# Altium schematic symbol library uw-madison-parts.SchLib: 39 symbols
Pins are listed as number, name and electrical type; pins without a type are passive.

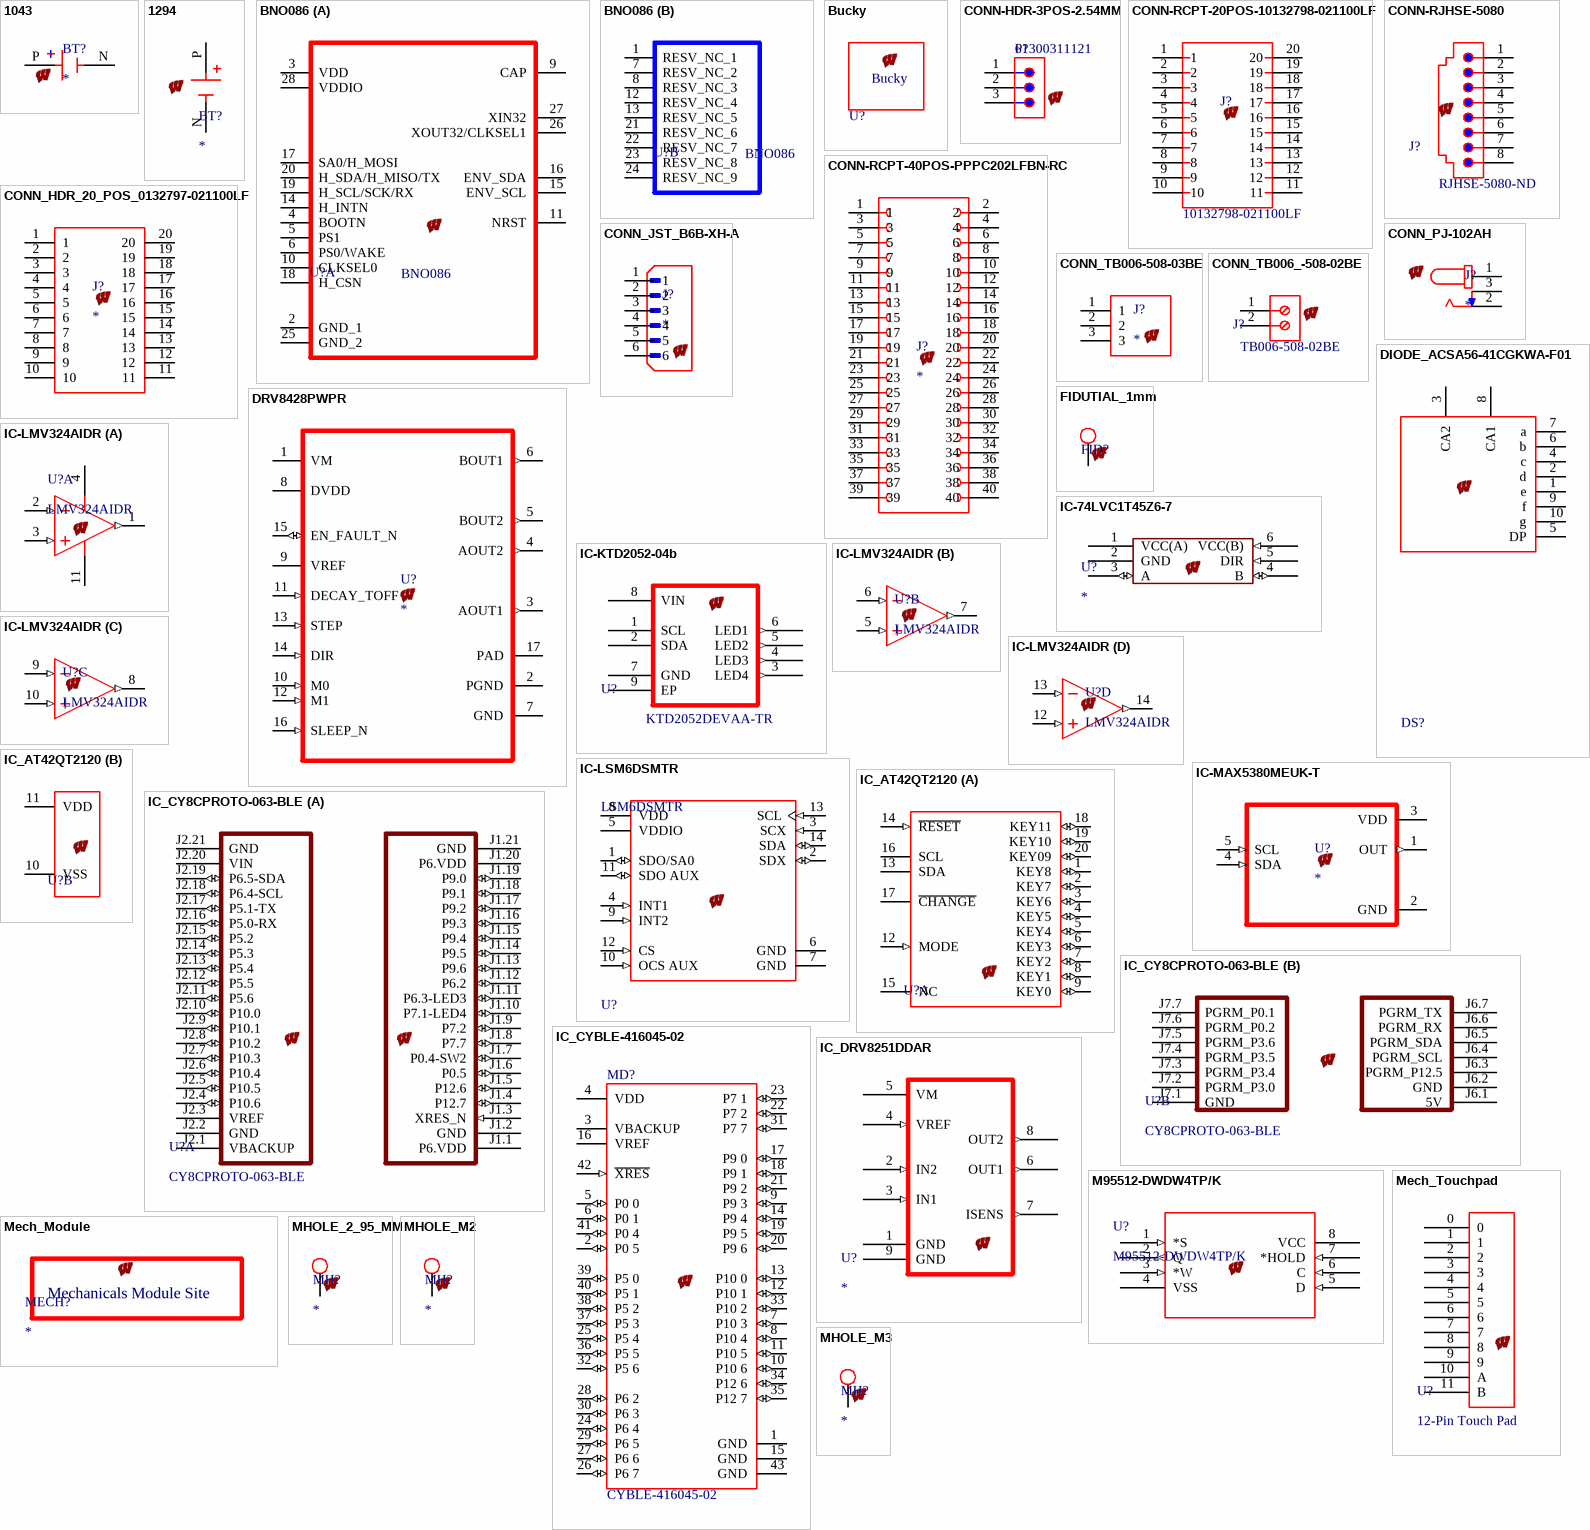
[diagram p0: symbols 1043 to MHOLE_M3]

## 1043
designator BT?
Manufacturer: Keystone Electronics; MP: 1043; Price: None; Availability: Unavailable; Value: *; Package: None; Supplier: Digikey; Supplier Part Number: 36-1043-ND; Manufacturer Part Number: 1043; RoHS: Yes; Category: Batteries and Accessories; Stock: 4625; Pricing: 1=3.38, 25=2.604, 100=2.328, 250=2.16176, 500=2.04398, 1000=1.9326, 2500=1.79464, 5000=1.69686 (USD); ComponentLink1URL: https://datasheet.ciiva.com/4/1043-4710.pdf?src-supplier=Digikey; ComponentLink1Description: https://datasheet.ciiva.com/4/1043-4710.pdf?src-supplier=Digikey; ComponentLink2URL: https://datasheet.ciiva.com/3353/1043-eng-tds-3353208.pdf?src-supplier=Distrelec; ComponentLink2Description: https://datasheet.ciiva.com/3353/1043-eng-tds-3353208.pdf?src-supplier=Distrelec; ComponentLink3URL: https://datasheet.ciiva.com/41803/1043-41803215.pdf?src-supplier=Digikey; ComponentLink3Description: https://datasheet.ciiva.com/41803/1043-41803215.pdf?src-supplier=Digikey; ComponentLink4URL: https://datasheet.ciiva.com/4642/1043-4642493.pdf?src-supplier=Mouser; ComponentLink4Description: https://datasheet.ciiva.com/4642/1043-4642493.pdf?src-supplier=Mouser
footprint BAT_1043
pins: N NEG, P POS

## 1294
designator BT?
Batteries/Accessories; MF: Keystone Electronics; MP: 1294; Connector Type: PCB; Option: General Purpose; DIN Conformance: No; SnapEDA_Link: https://www.snapeda.com/parts/1294/Keystone/view-part/?ref=snap; Package: NON STANDARD-6 Keystone; Value: *; Check_prices: https://www.snapeda.com/parts/1294/Keystone/view-part/?ref=eda; Supplier: Digikey; Supplier Part Number: 36-1294-ND; Manufacturer: Keystone Electronics; Manufacturer Part Number: 1294; RoHS: Yes; Category: Batteries and Accessories; Stock: 8657; Pricing: 1=2.89, 10=2.75, 500=2.13, 1000=1.65275, 2500=1.54001 (USD); Contact Finish - Mating: NOT SPECIFIED; IEC Conformance: No; MIL Conformance: No; Reach SVHC Compliant: Yes; RoHS Compliant: Yes; ComponentLink1URL: https://datasheet.ciiva.com:443/pdfs/VipMasterIC/IC/KEYC/KEYCS01036/KEYCS02682-1.pdf?src-supplier=IHS+Markit; ComponentLink1Description: https://datasheet.ciiva.com:443/pdfs/VipMasterIC/IC/KEYC/KEYCS01036/KEYCS02682-1.pdf?src-supplier=IHS+Markit; ComponentLink2URL: https://datasheet.ciiva.com/1391/1716650-1391274.pdf?src-supplier=Element14; ComponentLink2Description: https://datasheet.ciiva.com/1391/1716650-1391274.pdf?src-supplier=Element14; ComponentLink3URL: https://datasheet.ciiva.com/4/1294-4181.pdf?src-supplier=Digikey; ComponentLink3Description: https://datasheet.ciiva.com/4/1294-4181.pdf?src-supplier=Digikey; ComponentLink4URL: https://datasheet.ciiva.com/18403/70182887-18403178.pdf?src-supplier=Allied+Electronics; ComponentLink4Description: https://datasheet.ciiva.com/18403/70182887-18403178.pdf?src-supplier=Allied+Electronics
footprint BAT_1294
pins: N NEG, P POS

## BNO086
designator U?
Accelerometer, Gyroscope, Magnetometer, Temperature, 9 Axis Sensor IC, SPI Output; Manufacturer_Name: CEVA; Geometry.Height: 1.18mm; Mouser Part Number: 526-BNO086; Mouser Price/Stock: https://www.mouser.co.uk/ProductDetail/CEVA/BNO086?qs=ulEaXIWI0c%2FqTo1scjodAw%3D%3D; Manufacturer_Part_Number: BNO086; Datasheet Link: *
footprint BNO086
part A pins: 2 GND_1, 3 VDD, 4 BOOTN, 5 PS1, 6 PS0/WAKE, 9 CAP, 10 CLKSEL0, 11 NRST, 14 H_INTN, 15 ENV_SCL, 16 ENV_SDA, 17 SA0/H_MOSI, 18 H_CSN, 19 H_SCL/SCK/RX, 20 H_SDA/H_MISO/TX, 25 GND_2, 26 XOUT32/CLKSEL1, 27 XIN32, 28 VDDIO
part B pins: 1 RESV_NC_1, 7 RESV_NC_2, 8 RESV_NC_3, 12 RESV_NC_4, 13 RESV_NC_5, 21 RESV_NC_6, 22 RESV_NC_7, 23 RESV_NC_8, 24 RESV_NC_9

## Bucky
designator U?  (value not drawn)  (no BOM)
Bucky Badger Image; Manufacturer Part Number: UW Bucky
footprint Bucky

## CONN-HDR-3POS-2.54MM
designator P?, comment 61300311121
CONN HEADER VERT 3POS 2.54MM; NexarPartId: 32855521; Current Rating: 3A; Voltage Rating: 250V; Number of Positions: 3; Contact Resistance: 20mΩ; Connector Type: Male Pin; Gender: Male; REACH SVHC: Unknown; Packaging: Bulk; Contact Material: Copper; Pitch: 2.54mm; Min Operating Temperature: -40°C; Number of Rows: 1; Orientation: Vertical; RoHS: Compliant; Contact Plating: Gold; Max Operating Temperature: 105°C; Mount: Through Hole; Height: 8.94mm; Operating Supply Voltage: 250V; Number of Pins: 3; Contact Mating Length: 5.9944mm; Number of Contacts: 3; Color: Black; Lead Free: Lead Free; Lead Pitch: 2.54mm; Termination: Solder
footprint CONN-HDR-3POS (CONN HEADER VERT 3POS 2.54MM)
pins: 1, 2, 3

## CONN-RCPT-20POS-10132798-021100LF
designator J?  Manufacturer Part Number: 10132798-021100LF  (hidden comment: *)
Conn Fine Pitch Connector RCP 20 POS 0.5mm Solder ST SMD BergstakR T/R; Manufacturer: Amphenol ICC / FCI; Supplier 1: Digikey; RoHS: Yes; Category: Connectors; Stock 1: 7495; Pricing 1: 1=0.86, 10=0.73, 25=0.6844, 50=0.6516, 100=0.6205, 250=0.58156, 500=0.55376 (USD); ComponentLink1URL: http://portal.fciconnect.com/Comergent//fci/drawing/10132798.pdf?src-supplier=Digikey; ComponentLink1Description: http://portal.fciconnect.com/Comergent//fci/drawing/10132798.pdf?src-supplier=Digikey; ComponentLink2URL: https://cdn.amphenol-icc.com/media/wysiwyg/files/documentation/datasheet/boardwiretoboard/bwb_bergstak_05mm_mezzanine.pdf?src-supplier=Digikey; ComponentLink2Description: https://cdn.amphenol-icc.com/media/wysiwyg/files/documentation/datasheet/boardwiretoboard/bwb_bergstak_05mm_mezzanine.pdf?src-supplier=Digikey; ComponentLink3URL: https://datasheet.octopart.com/10132798-021100LF-Amphenol-Communications-Solutions-datasheet-100454238.pdf?src-supplier=Farnell; ComponentLink3Description: https://datasheet.octopart.com/10132798-021100LF-Amphenol-Communications-Solutions-datasheet-100454238.pdf?src-supplier=Farnell; ComponentLink4URL: https://datasheet.octopart.com/10132798-021100LF-Amphenol-Communications-Solutions-datasheet-154727277.pdf?src-supplier=Electro+Sonic; ComponentLink4Description: https://datasheet.octopart.com/10132798-021100LF-Amphenol-Communications-Solutions-datasheet-154727277.pdf?src-supplier=Electro+Sonic; Supplier Part Number 1: 609-5028-1-ND
footprint CONN-RCPT-20PIN-10132798-021100LF
pins: 1, 2, 3, 4, 5, 6, 7, 8, 9, 10, 11, 12, 13, 14, 15, 16, 17, 18, 19, 20

## CONN-RCPT-40POS-PPPC202LFBN-RC
designator J?
Board Connector, 40 Contact(s), 2 Row(s), Female, Straight, 0.1 inch Pitch, Solder Terminal, Locking; Manufacturer: Sullins; Manufacturer Series: PP; MP: PPPC202LFBN-RC; Number of Positions: 40; Connector Type: Header; Voltage Rating: 250V; Number of Contacts: 40NUMBER; Current Rating: 3A; Contact Pattern: RECTANGULAR; Contact Style: SQ PIN-SKT; Number Of Connectors: 1; Number Of PCB Rows: 2; Polarization Key: POLARIZED HOUSING; Body Breadth: 0.197inch; Body Depth: 0.334inch; Body Length: 2.02inch; PCB Contact Row Spacing: 2.54mm; Reference Standard: UL; Reliability: COMMERCIAL; Price: None; Package: None; Availability: Unavailable; Value: *; Supplier: Digikey; Supplier Part Number: S7123-ND; Manufacturer Part Number: PPPC202LFBN-RC; RoHS: Yes; Category: Connectors; Stock: 58226; Pricing: 1=2.4, 10=2.091, 80=1.869, 440=1.55745, 1000=1.33497, 5000=1.2714 (USD); Mounting Technology: Through Hole; Contact Material: Nickel,Gold; Contact Finish - Mating: GOLD; Contact Shape: Square; Insulation Color: Black; Insulation Material: Polyester; Housing Material: Plastic; Min Operating Temperature: -40°C; Max Operating Temperature: 105°C; Packaging: Tray; Termination: Solder; Number of Rows: 2; Contact Type: Female Socket; Series: -; Fastening Type: Pull; Length: 51.3mm; Width: 5mm; Height: 8.7mm; RoHS Compliant: Yes; Lead Free: Lead Free; Flammability Rating: UL94 V-0; ComponentLink1URL: https://media.digikey.com/pdf/Data%20Sheets/Sullins%20PDFs/Female_Headers.100_DS.pdf?src-supplier=Digikey; ComponentLink1Description: https://media.digikey.com/pdf/Data%20Sheets/Sullins%20PDFs/Female_Headers.100_DS.pdf?src-supplier=Digikey; ComponentLink2URL: https://datasheet.octopart.com/PPPC202LFBN-RC-Sullins-datasheet-41308905.pdf?src-supplier=Future+Electronics; ComponentLink2Description: https://datasheet.octopart.com/PPPC202LFBN-RC-Sullins-datasheet-41308905.pdf?src-supplier=Future+Electronics; Contact Gender: Female; Mounting Style: STRAIGHT; Number of Rows Loaded: 2; PCB Contact Pattern: RECTANGULAR; Rated Current (Signal): 3A; Mating Contact Pitch: 0.1inch; Mating Contact Row Spacing: 0.1inch; Mounting Option 1: LOCKING; Terminal Length: 0.125inch; Terminal Pitch: 2.54mm; Reach SVHC Compliant: Yes; ComponentLink3URL: https://datasheet.ciiva.com:443/pdfs/VipMasterIC/IC/SUCS/SUCSS00270/SUCSS00270-1.pdf?src-supplier=IHS+Markit; ComponentLink3Description: https://datasheet.ciiva.com:443/pdfs/VipMasterIC/IC/SUCS/SUCSS00270/SUCSS00270-1.pdf?src-supplier=IHS+Markit
footprint SULLINS_PPPC202LFBN-RC
pins: 1, 2, 3, 4, 5, 6, 7, 8, 9, 10, 11, 12, 13, 14, 15, 16, 17, 18, 19, 20, 21, 22, 23, 24, 25, 26, 27, 28, 29, 30, 31, 32, 33, 34, 35, 36, 37, 38, 39, 40

## CONN-RJHSE-5080
designator J?  Supplier Part Number 1: RJHSE-5080-ND
Telecom and Datacom Connector, 8 Contact(s), Female, Right Angle, Solder Terminal, Locking, Jack; Manufacturer: Amphenol; Contact Style: TELCOM, MODULAR; Number of Ports: 1; PCB Contact Pattern: STAGGERED; Number of Contacts: 8; Option: General Purpose; Empty Shell: No; Body Breadth: 0.52inch; Body Depth: 0.59inch; Body Length: 0.62inch; Plating Thickness: 50uin; Reference Standard: UL; Reliability: COMMERCIAL; ComponentLink1URL: http://www.molex.com/; ComponentLink1Description: Manufacturer URL; ComponentLink2URL: http://www.molex.com/pdm_docs/sd/955012881_sd.pdf; ComponentLink2Description: Datasheet; Supplier 1: Digikey; Manufacturer Part Number: RJHSE-5080; RoHS: Yes; Stock 1: 6683; Pricing 1: 1=0.98, 10=0.829, 25=0.7772, 50=0.7402, 100=0.7047, 250=0.66056, 500=0.629, 1000=0.59896, 2500=0.56146 (USD); Mounting Technology: Panel,Board; Contact Material: Bronze; Contact Finish - Mating: GOLD (50) OVER NICKEL (50); Contact Finish - Termination: Matte Tin (Sn); Insulation Color: Black; Insulation Material: Thermoplastic; Shell Material: Polyethylene; Connector Type: TELECOM AND DATACOM CONNECTOR; JESD-609 Code: e3; Body/Shell Style: JACK; Contact Gender: Female; Mounting Style: RIGHT ANGLE; Termination: Solder; Filter Feature: No; Mixed Contacts: No; Mounting Option 1: LOCKING; Terminal Length: 0.1inch; Terminal Pitch: 2.032mm; Flammability Rating: UL94 V-0; Reach SVHC Compliant: Yes; RoHS Compliant: Yes; DIN Conformance: No; IEC Conformance: No; MIL Conformance: No; ComponentLink3URL: https://datasheet.ciiva.com:443/pdfs/VipMasterIC/IC/AMPH/AMPH-S-A0001396201/AMPH-S-A0001290431-1.pdf?src-supplier=IHS+Markit; ComponentLink3Description: https://datasheet.ciiva.com:443/pdfs/VipMasterIC/IC/AMPH/AMPH-S-A0001396201/AMPH-S-A0001290431-1.pdf?src-supplier=IHS+Markit; ComponentLink4URL: https://datasheet.ciiva.com/7629/1682821-7629402.pdf?src-supplier=Element14; ComponentLink4Description: https://datasheet.ciiva.com/7629/1682821-7629402.pdf?src-supplier=Element14; ComponentLink5URL: https://datasheet.ciiva.com/1432/1693748-1432448.pdf?src-supplier=Element14; ComponentLink5Description: https://datasheet.ciiva.com/1432/1693748-1432448.pdf?src-supplier=Element14
footprint FP-RJHSE-5080-MFG
pins: 1, 2, 3, 4, 5, 6, 7, 8

## CONN_HDR_20_POS_0132797-021100LF
designator J?
BergStak® 0.5mm Mezzanine Connector, Board To Board Connectors, 20 position, 2.3mm height plug connector.; MP: 10132797-021100LF; MF: AMPHENOL ICC / FCI; SnapEDA_Link: https://www.snapeda.com/parts/10132797-021100LF/Amphenol/view-part/?ref=snap; Availability: In Stock; Package: None; Purchase-URL: https://pricing.snapeda.com/search/part/10132797-021100LF/?ref=eda; Check_prices: https://www.snapeda.com/parts/10132797-021100LF/Amphenol/view-part/?ref=eda; Value: *; Price: None; Supplier: Digikey; Supplier Part Number: 609-5022-1-ND; Manufacturer: Amphenol ICC / FCI; Manufacturer Part Number: 10132797-021100LF; RoHS: Yes; Category: Connectors; Stock: 2915; Pricing: 1=0.88, 10=0.743, 25=0.6968, 50=0.6634, 100=0.6316, 250=0.59204, 500=0.56374 (USD); Contact Finish - Mating: NOT SPECIFIED; Connector Type: BOARD CONNECTOR; Reach SVHC Compliant: Yes; RoHS Compliant: Yes; ComponentLink1URL: https://datasheet.octopart.com/10132797-021100LF-Amphenol-Communications-Solutions-datasheet-100454238.pdf?src-supplier=Element14; ComponentLink1Description: https://datasheet.octopart.com/10132797-021100LF-Amphenol-Communications-Solutions-datasheet-100454238.pdf?src-supplier=Element14; ComponentLink2URL: http://portal.fciconnect.com/Comergent//fci/drawing/10132797.pdf?src-supplier=Digikey; ComponentLink2Description: http://portal.fciconnect.com/Comergent//fci/drawing/10132797.pdf?src-supplier=Digikey; ComponentLink3URL: https://cdn.amphenol-icc.com/media/wysiwyg/files/documentation/datasheet/boardwiretoboard/bwb_bergstak_05mm_mezzanine.pdf?src-supplier=Digikey; ComponentLink3Description: https://cdn.amphenol-icc.com/media/wysiwyg/files/documentation/datasheet/boardwiretoboard/bwb_bergstak_05mm_mezzanine.pdf?src-supplier=Digikey
footprint CONN_PLUG_20pin-10132797-021100LF (CONN PLUG 20POS SMD GOLD)
pins: 1, 2, 3, 4, 5, 6, 7, 8, 9, 10, 11, 12, 13, 14, 15, 16, 17, 18, 19, 20

## CONN_JST_B6B-XH-A
designator J?
Connector Header, XH Series, 6 Position, 2.50mm, Through Hole, Press-Fit, Solder, Natural; Manufacturer: JST; Manufacturer Part Number: B6B-XH-A(LF)(SN); MF: {'manufacturer': u'JST Sales America Inc.'}; MP: B6B-XH-A; Package: None; Price: None; Value: *; Availability: Unavailable; Supplier: Mouser; Supplier Part Number: 306-B6BXHALFSN; RoHS: No; Category: Headers and Wire Housings; Stock: 209389; Pricing: 1=0.24, 10=0.197, 50=0.197, 100=0.161, 250=0.139, 1000=0.13, 2500=0.113, 10000=0.106, 20000=0.098 (USD); ComponentLink1URL: https://datasheet.ciiva.com/26894/getdatasheetpartid-641012-26894489.pdf?src-supplier=Verical; ComponentLink1Description: https://datasheet.ciiva.com/26894/getdatasheetpartid-641012-26894489.pdf?src-supplier=Verical; ComponentLink2URL: https://datasheet.ciiva.com/16397/b6b-xh-alfsn-16397116.pdf?src-supplier=Future+Electronics; ComponentLink2Description: https://datasheet.ciiva.com/16397/b6b-xh-alfsn-16397116.pdf?src-supplier=Future+Electronics
footprint JST_B6B-XH-A
pins: 1, 2, 3, 4, 5, 6

## CONN_PJ-102AH
designator J?
2.0 x 6.5 mm, 5.0 A, Horizontal, Through Hole, Tapered Pins, Dc Power Jack Connector; Manufacturer: CUI; MF: {'manufacturer': u'CUI Devices'}; MP: PJ-102AH; Number of Conductors: 2; Shielding: Unshielded; Package: None; Price: None; Value: *; Availability: Unavailable; Supplier: Digikey; Supplier Part Number: CP-102AH-ND; Manufacturer Part Number: PJ-102AH; RoHS: Yes; Category: Uncategorized; Stock: 76168; Pricing: 1=0.700000, 10=0.590000, 25=0.566000, 40=0.553750, 200=0.529750, 400=0.481600, 600=0.433430, 1000=0.385280, 2400=0.349160 (USD); Orientation: Horizontal; Packaging: Bulk; Termination: Through Hole; Connector Type: Jack; Diameter: 2.1mm; Lead Free: Lead Free; RoHS Compliant: Yes; ComponentLink1URL: http://www.mouser.com/ds/2/670/PJ-102AH-524179.pdf?src-supplier=Mouser; ComponentLink1Description: http://www.mouser.com/ds/2/670/PJ-102AH-524179.pdf?src-supplier=Mouser; ComponentLink2URL: https://www.cui.com/product/resource/digikeypdf/pj-102ah.pdf?src-supplier=Digikey; ComponentLink2Description: https://www.cui.com/product/resource/digikeypdf/pj-102ah.pdf?src-supplier=Digikey; ComponentLink3URL: http://www.cui.com/Product/Resource/FuturePDF/PJ-102AH.pdf?src-supplier=Future+Electronics; ComponentLink3Description: http://www.cui.com/Product/Resource/FuturePDF/PJ-102AH.pdf?src-supplier=Future+Electronics
footprint CUI_PJ-102AH
pins: 1, 2, 3

## CONN_TB006-508-03BE
designator J?
2~24 Poles, Screw Type, Horizontal, 5.08 Pitch, 26~14 (AWG), Terminal Block Connector; MF: CUI Devices; MP: TB006-508-03BE; Price: None; CUI_purchase_URL: https://www.cuidevices.com/product/interconnect/connectors/terminal-blocks/tb006-508-series?utm_source=snapeda.com&utm_medium=referral&utm_campaign=snapedaBOM; Purchase-URL: https://pricing.snapeda.com/search/part/TB006-508-03BE/?ref=eda; Value: *; Package: None; SnapEDA_Link: https://www.snapeda.com/parts/TB006-508-03BE/CUI+Devices/view-part/?ref=snap; Availability: In Stock; Check_prices: https://www.snapeda.com/parts/TB006-508-03BE/CUI+Devices/view-part/?ref=eda
footprint CUI_TB006-508-03BE
pins: 1, 2, 3

## CONN_TB006_-508-02BE
designator J?  Manufacturer Part Number: TB006-508-02BE  (hidden comment: *)
2~24 Poles, Screw Type, Horizontal, 5.08 Pitch, 26~14 (AWG), Terminal Block Connector; MF: CUI Devices; MP: TB006 -508-02BE; CUI_purchase_URL: https://www.cuidevices.com/product/interconnect/connectors/terminal-blocks/tb006-508-series?utm_source=snapeda.com&utm_medium=referral&utm_campaign=snapedaBOM; Value: *; Check_prices: https://www.snapeda.com/parts/TB006%20-508-02BE/CUI+Devices/view-part/?ref=eda; SnapEDA_Link: https://www.snapeda.com/parts/TB006%20-508-02BE/CUI+Devices/view-part/?ref=snap; Availability: In Stock; Package: None; Purchase-URL: https://pricing.snapeda.com/search/part/TB006 -508-02BE/?ref=eda; Price: None; Supplier: Digikey; Supplier Part Number: 102-6191-ND; Manufacturer: CUI Devices; RoHS: Yes; Category: Terminal Blocks; Stock: 47249; Pricing: 1=0.73, 10=0.402, 25=0.3, 50=0.2676, 100=0.2623, 250=0.23084, 500=0.20984, 1000=0.18886, 5000=0.14164 (USD)
footprint CUI_TB006 -508-02BE
pins: 1, 2

## DIODE_ACSA56-41CGKWA-F01
designator DS?, comment ACSA56-41CGKWA-F01  (value not drawn)
DISPLAY 7SEG 0.56" SGL GRN 10SMD; Manufacturer: Kingbright; Color: Green; Power Consumption: 75mW; Number of Characters: 1; Forward Current: 30mA; Forward Voltage: 2.1V; Wavelength: 570nm; Test Current: 20mA; Luminous Intensity: 25mcd; Display Type: Segment; Supplier: Digikey; Supplier Part Number: 754-1033-1-ND; Manufacturer Part Number: ACSA56-41CGKWA-F01; RoHS: Yes; Category: LEDs; Stock: 24017; Pricing: 1=3.02, 10=2.138, 100=1.7511 (USD); Case/Package: SMD/SMT; Min Operating Temperature: -40°C; Max Operating Temperature: 85°C; Package Quantity: 400; Max Power Dissipation: 75mW; Illumination Color: Green; Packaging: Cut Tape; Operating Supply Voltage: 2.1V; Series: -; RoHS Compliant: Yes; Lead Free: Lead Free; ComponentLink1URL: https://datasheet.ciiva.com/2103/acsa56-41cgkwa-f01-2103794.pdf?src-supplier=Digikey; ComponentLink1Description: https://datasheet.ciiva.com/2103/acsa56-41cgkwa-f01-2103794.pdf?src-supplier=Digikey; ComponentLink2URL: https://datasheet.ciiva.com/16287/acsa56-41cgkwa-f01-16287523.pdf?src-supplier=Future+Electronics; ComponentLink2Description: https://datasheet.ciiva.com/16287/acsa56-41cgkwa-f01-16287523.pdf?src-supplier=Future+Electronics; ComponentLink3URL: https://datasheet.ciiva.com/4421/acsa56-41cgkwa-f01-17964-4421697.pdf?src-supplier=Mouser; ComponentLink3Description: https://datasheet.ciiva.com/4421/acsa56-41cgkwa-f01-17964-4421697.pdf?src-supplier=Mouser; ComponentLink4URL: https://datasheet.ciiva.com/2103/acsa56-41cgkwa-f01-2103795.pdf?src-supplier=Digikey; ComponentLink4Description: https://datasheet.ciiva.com/2103/acsa56-41cgkwa-f01-2103795.pdf?src-supplier=Digikey; ComponentLink5URL: https://datasheet.ciiva.com/2103/acsa56-41cgkwa-f01-2103796.pdf?src-supplier=Digikey; ComponentLink5Description: https://datasheet.ciiva.com/2103/acsa56-41cgkwa-f01-2103796.pdf?src-supplier=Digikey
footprint ACSA56-41CGKWA-F01
pins: 1 e, 2 d, 3 CA2, 4 c, 5 DP, 6 b, 7 a, 8 CA1, 9 f, 10 g

## DRV8428PWPR
designator U?
No Description Available; Mfr_Name: Texas Instruments; TYPE: TYPE; RefDes: RefDes
footprint DRV8428PWPR
pins: 1 VM (power), 2 PGND (power), 3 AOUT1 (out), 4 AOUT2 (out), 5 BOUT2 (out), 6 BOUT1 (out), 7 GND (power), 8 DVDD (power), 9 VREF, 10 M0 (in), 11 DECAY_TOFF (in), 12 M1 (in), 13 STEP (in), 14 DIR (in), 15 EN_FAULT_N (io), 16 SLEEP_N (in), 17 PAD (power)

## FIDUTIAL_1mm
designator FID?  (value not drawn)  (no BOM)
Fidutial; Manufacturer Part Number: UW Fidutial
footprint Fiducials
pins: 1

## IC-74LVC1T45Z6-7
designator U?
Bus Transceiver, LVC/LCX/Z Series, 1-Func, 1-Bit, True Output, CMOS, PDSO6; Manufacturer: Diodes; Manufacturer Part Number: 74LVC1T45Z6-7; Package Body Material: Plastic; Control Type: COMMON CONTROL; Count Direction: Bidirectional; Load/Preset Input: Yes; Max I(ol): 24mA; Number of Bits: 1; Number of Ports: 2; Output Characteristics: 3-STATE; Power Supplies: 3.3V; Max Supply Voltage: 5.5V; Min Supply Voltage: 1.65V; Qualification Status: Not Qualified; Supplier: Digikey; Supplier Part Number: 74LVC1T45Z6-7DICT-ND; RoHS: Yes; Category: Logic ICs; Stock: 240655; Pricing: 1=0.19, 10=0.13, 25=0.114, 100=0.0972, 250=0.08908, 500=0.0842, 1000=0.08019 (USD); Case/Package: VSOF; Pins: 6; Package Shape: Rectangular; Terminal Finish: Tin; Min Operating Temperature: -40°C; Max Operating Temperature: 125°C; JESD-609 Code: e3; Output Polarity: True; JESD-30 Code: R-PDSO-F6; Logic Type: BUS TRANSCEIVER; Moisture Sensitivity Level: 1; Channels: 1; Package Style: SMALL OUTLINE, VERY THIN PROFILEMeter; Packaging: Tape and Reel; Nominal Supply Voltage: 3.3V; Surface Mount: Yes; Technology: CMOS; Terminal Form: Flat; Terminal Position: DUAL; Width: 1.2mm; Height - Seated (Max): 0.6mm; Terminal Pitch: 0.5mm; Temperature Grade: AUTOMOTIVE; Reach SVHC Compliant: Yes; RoHS Compliant: Yes; ComponentLink1URL: https://datasheet.ciiva.com:443/pdfs/VipMasterIC/IC/DIOD/DIOD-S-A0006644025/DIOD-S-A0006644025-1.pdf?src-supplier=IHS+Markit; ComponentLink1Description: https://datasheet.ciiva.com:443/pdfs/VipMasterIC/IC/DIOD/DIOD-S-A0006644025/DIOD-S-A0006644025-1.pdf?src-supplier=IHS+Markit; ComponentLink2URL: http://www.mouser.com/ds/2/115/74LVC1T45-318124.pdf?src-supplier=Mouser; ComponentLink2Description: http://www.mouser.com/ds/2/115/74LVC1T45-318124.pdf?src-supplier=Mouser; ComponentLink3URL: http://diodes.com/datasheets/74LVC1T45.pdf?src-supplier=Avnet; ComponentLink3Description: http://diodes.com/datasheets/74LVC1T45.pdf?src-supplier=Avnet; ComponentLink4URL: https://www.diodes.com/assets/Datasheets/74LVC1T45.pdf?src-supplier=Digikey; ComponentLink4Description: https://www.diodes.com/assets/Datasheets/74LVC1T45.pdf?src-supplier=Digikey; ComponentLink5URL: https://datasheet.octopart.com/74LVC1T45Z6-7-Diodes-Inc.-datasheet-160640065.pdf?src-supplier=Newark; ComponentLink5Description: https://datasheet.octopart.com/74LVC1T45Z6-7-Diodes-Inc.-datasheet-160640065.pdf?src-supplier=Newark
footprint SOT563
pins: 1 VCC(A) (power), 2 GND (power), 3 A (io), 4 B (io), 5 DIR (in), 6 VCC(B) (in)

## IC-KTD2052-04b
designator U?  Manufacturer Part Number: KTD2052DEVAA-TR  (hidden comment: *)
12-CHANNEL RGB LED DRIVER; Manufacturer: Kinetic Technologies; Supplier: Digi-Key; RoHS: No; Category: Uncategorized; Stock 1: 3000; Pricing 1: 1=1.55, 10=1.382, 25=1.312, 100=1.0779, 250=1.00756, 500=0.89042, 1000=0.70296 (USD); Supplier Part Number: 2763-KTD2052DEVAA-TRCT-ND
footprint KTD2052-04b
pins: 1 SCL, 2 SDA, 3 LED4 (out), 4 LED3 (out), 5 LED2 (out), 6 LED1 (out), 7 GND (power), 8 VIN (power), 9 EP (power)

## IC-LMV324AIDR
designator U?, comment LMV324AIDR
IC OPAMP GP 4 CIRCUIT 14SOIC; Nominal Supply Current: 1mA; Gain Bandwidth Product: 10MHz; Input Bias Current: 1pA; Max Supply Voltage: 5.5V; Min Input Voltage: 2.5V; Voltage Gain: 110dB; Number of Circuits: 1; Slew Rate: 7V/µs; Input Offset Voltage (Vos): 250uV; Power Supply Rejection Ratio (PSRR): 74dB; Input Offset Voltage-Max: 500uV; Output Current per Channel: 30mA; Output Current: 22mA; Common Mode Rejection Ratio: 70dB; Max Frequency: 10kHz; Amplifier Type: GENERAL PURPOSE; Contact Plating: Tin; Number of Pins: 5; Operating Supply Current: 1mA; RoHS Compliant: Yes; Mount: Surface Mount; Number of Amplifiers: 1; Case/Package: SOT-23; Min Supply Voltage: 2.5V; Radiation Hardening: No; Height: 0.051inch; Max Input Voltage: 5.5V; Min Operating Temperature: -40°C; Max Operating Temperature: 125°C; Number of Channels: 1; Package Quantity: 3000; Unity Gain Bandwidth Product: 10MHz; Length: 0.122inch; Width: 0.071inch; Number of Elements: 1; Bandwidth: 10MHz; Lead Free: Lead Free; Packaging: Tape and Reel; Technology: CMOS; Supply Current: 1mA; REACH SVHC: No SVHC
footprint SOIC127P600X175-14N
part A pins: 1 OUTA (out), 2 -INA (in), 3 INA+ (in), 4 V+ (power), 11 V- (power)
part B pins: 5 INB+ (in), 6 -INB (in), 7 OUTB (out)
part C pins: 8 OUTC (out), 9 -INC (in), 10 INC+ (in)
part D pins: 12 IND+ (in), 13 -IND (in), 14 OUTD (out)

## IC-LSM6DSMTR
designator U?, comment LSM6DSMTR
IMU ACCEL/GYRO I2C/SPI 14LGA; Manufacturer: STMicroelectronics; Operating Supply Current: 0.29-0.65mA; Gyro Range: 125/250/500/1000/2000°/s; Sensor Output: I2C,SPI; Accel Range: 2/4/8/16g; Min Supply Voltage: 1.62V; Resolution: 16bits; Sensor Type: Temperature,Accelerometer,Gyroscope; Max Supply Voltage: 3.6V; Manufacturer Part Number: LSM6DSMTR; Octopart: https://octopart.com/lsm6dsmtr-stmicroelectronics-66358194; Height: 0.86mm; Category: IC; Lead Free: Yes; Temperature: -40°C to +85°C; Temperature Range Low: -40°C; ComponentLink2Description: Datasheet; ComponentLink2URL: https://www.st.com/resource/en/datasheet/lsm6dsm.pdf; Digikey Description: IMU ACCEL/GYRO I2C/SPI 14LGA; Footprint Url: https://www.st.com/content/ccc/resource/technical/document/technical_note/73/17/9c/16/dd/96/4a/01/CD00134799.pdf/files/CD00134799.pdf/jcr:content/translations/en.CD00134799.pdf; Device Class L1: Sensors; Device Class L2: Motion Sensors; Temperature Range High: +85°C; Mouser Description: LSM6DSM Series 3.6 V I2C/SPI 3D Accelerometer and 3D Gyroscope - LGA-14; Device Class L3: Inertial Measurement Units (IMUs); Automotive: No; Package: LGA-14L-DM00249496; RoHS: TRUE
footprint LSM6DSMTR
pins: 1 SDO/SA0 (io), 2 SDX (io), 3 SCX (in), 4 INT1 (in), 5 VDDIO (power), 6 GND (power), 7 GND (power), 8 VDD (power), 9 INT2 (in), 10 OCS AUX (in), 11 SDO AUX (io), 12 CS (in), 13 SCL (in), 14 SDA (io)

## IC-MAX5380MEUK-T
designator U?
Low-Cost, Low-Power, 8-Bit DACs with 2-Wire Serial Interface in SOT23; Manufacturer: Maxim; Manufacturer Part Number: MAX5380MEUK+T; MP: MAX5380MEUK-T; Resolution: 8b; Integral Nonlinearity (INL): 1LSB; Output Type: Voltage; Max Power Dissipation: 571mW; Interface: I2C,Serial; Max Supply Voltage: 3.6V; Min Supply Voltage: 2.7V; Settling Time: 20us; Number of Bits: 8; Number of Converters: 1; Differential Output: No; Supply Type: Single; Supply Current: 150uA; Package: None; Price: None; Value: *; Availability: Unavailable; Supplier: Digikey; Supplier Part Number: 175-MAX5380MEUK+TCT-ND; RoHS: Yes; Category: Digital to Analog Converters (DACs); Stock: 2360; Pricing: 1=2.65, 10=2.382, 25=2.2472, 100=1.9147, 250=1.7978, 500=1.57308, 1000=1.3034 (USD); Mounting Technology: Surface Mount; Case/Package: SOT-23-5; Pins: 5; Min Operating Temperature: -40°C; Max Operating Temperature: 85°C; Packaging: Tape and Reel; Package Quantity: 1; Number of D/A Converters: 1; Series: -; RoHS Compliant: Yes; ComponentLink1URL: https://datasheet.ciiva.com/1366/max5380-max5382-1366001.pdf?src-supplier=Digikey; ComponentLink1Description: https://datasheet.ciiva.com/1366/max5380-max5382-1366001.pdf?src-supplier=Digikey; ComponentLink2URL: https://datasheet.ciiva.com/1366/max5380-max5382-1366002.pdf?src-supplier=Digikey; ComponentLink2Description: https://datasheet.ciiva.com/1366/max5380-max5382-1366002.pdf?src-supplier=Digikey; ComponentLink3URL: https://datasheet.ciiva.com/1366/max5380-max5382-1366003.pdf?src-supplier=Digikey; ComponentLink3Description: https://datasheet.ciiva.com/1366/max5380-max5382-1366003.pdf?src-supplier=Digikey
footprint SOT23-5-MAX5380MEUK+T
pins: 1 OUT (out), 2 GND (power), 3 VDD (power), 4 SDA (in), 5 SCL (in)

## IC_AT42QT2120
designator U?  (value not drawn)
IC TOUCH SENSOR 12CH 20SOIC; Manufacturer 1: Microchip / Atmel; Manufacturer Part Number 1: AT42QT2120-SU; Interface: I2C; ComponentLink1URL: http://www.atmel.com/images/doc9634.pdf; ComponentLink1Description: http://www.atmel.com/images/doc9634.pdf; Supplier 1: Digi-Key; Supplier Part Number 1: AT42QT2120-SU-ND; RoHS: Yes; Category: Uncategorized; Stock 1: 417; Pricing 1: 1=1.31000, 25=1.21000, 100=1.09200 (USD); Case/Package: SOIC; Min Operating Temperature: -40°C; Max Operating Temperature: 85°C; Packaging: Rail/Tube; Package Quantity: 37; Series: QTouch™; RoHS Compliant: Yes; ComponentLink2URL: https://datasheet.ciiva.com/6483/doc9634-6483479.pdf?src-supplier=Digi-Key; ComponentLink2Description: https://datasheet.ciiva.com/6483/doc9634-6483479.pdf?src-supplier=Digi-Key; ComponentLink3URL: https://datasheet.ciiva.com/12177/doc9634-271534-12177086.pdf?src-supplier=Mouser; ComponentLink3Description: https://datasheet.ciiva.com/12177/doc9634-271534-12177086.pdf?src-supplier=Mouser
footprint SOIC_AT42QT2120 (SOIC, 20-Leads, Body 12.8x7.5mm, Pitch 1.27mm, IPC Low Density)
part A pins: 1 KEY8 (io), 2 KEY7 (io), 3 KEY6 (io), 4 KEY5 (io), 5 KEY4 (io), 6 KEY3 (io), 7 KEY2 (io), 8 KEY1 (io), 9 KEY0 (io), 12 MODE (in), 13 SDA (oc), 14 ~{RESET} (in), 15 NC, 16 SCL (oc), 17 ~{CHANGE} (oc), 18 KEY11 (io), 19 KEY10 (io), 20 KEY09 (io)
part B pins: 10 VSS (power), 11 VDD (power)

## IC_CY8CPROTO-063-BLE
designator U?, comment CY8CPROTO-063-BLE
footprint CY8CPROTO-063-BLE
part A pins: J1.1 P6.VDD, J1.2 GND (power), J1.3 XRES_N (in), J1.4 P12.7 (io), J1.5 P12.6 (io), J1.6 P0.5 (io), J1.7 P0.4-SW2 (io), J1.8 P7.7 (io), J1.9 P7.2 (io), J1.10 P7.1-LED4 (io), J1.11 P6.3-LED3 (io), J1.12 P6.2 (io), J1.13 P9.6 (io), J1.14 P9.5 (io), J1.15 P9.4 (io), J1.16 P9.3 (io), J1.17 P9.2 (io), J1.18 P9.1 (io), J1.19 P9.0 (io), J1.20 P6.VDD, J1.21 GND (power), J2.1 VBACKUP, J2.2 GND (power), J2.3 VREF (power), J2.4 P10.6 (io), J2.5 P10.5 (io), J2.6 P10.4 (io), J2.7 P10.3 (io), J2.8 P10.2 (io), J2.9 P10.1 (io), J2.10 P10.0 (io), J2.11 P5.6 (io), J2.12 P5.5 (io), J2.13 P5.4 (io), J2.14 P5.3 (io), J2.15 P5.2 (io), J2.16 P5.0-RX (io), J2.17 P5.1-TX (io), J2.18 P6.4-SCL (io), J2.19 P6.5-SDA (io), J2.20 VIN (power), J2.21 GND (power)
part B pins: J6.1 5V, J6.2 GND, J6.3 PGRM_P12.5, J6.4 PGRM_SCL, J6.5 PGRM_SDA, J6.6 PGRM_RX, J6.7 PGRM_TX, J7.1 GND, J7.2 PGRM_P3.0, J7.3 PGRM_P3.4, J7.4 PGRM_P3.5, J7.5 PGRM_P3.6, J7.6 PGRM_P0.2, J7.7 PGRM_P0.1

## IC_CYBLE-416045-02
designator MD?, comment CYBLE-416045-02  (no BOM)
RF TXRX MOD BLUETOOTH TRACE ANT; Manufacturer: Cypress Semiconductor; Manufacturer 1: Cypress; Number Of Gpio: 36; Number Of Adc Channels: 1; Max Supply Voltage: 3.6V; Min Supply Voltage: 1.71V; Data Rate: 2Mbits/s; Receiving Current: 6.7mA; Max Frequency: 2.5GHz; Bandwidth: 100MHz; Transmitting Current: 5.7mA; Interface: I2C,SPI,UART,I2S,Other; Octopart: https://octopart.com/cyble-416045-02-cypress+semiconductor-96386825; Lead Free: Yes; RoHS: TRUE; Device Class L3: Transceivers; Category: UNK; Package: 0; Device Class L2: RF Semiconductors and Devices; Automotive: No; ComponentLink2URL: https://www.cypress.com/file/428336/download; Temperature Range Low: -40°C; Height: 2mm; Device Class L1: Integrated Circuits (ICs); Manufacturer Part Number: CYBLE-416045-02; ComponentLink2Description: Datasheet; Digikey Description: RF TXRX MOD BLUETOOTH TRACE ANT; Temperature: -40°C to +85°C; Temperature Range High: +85°C; Supplier: Digi-Key; Supplier Part Number: 428-4622-1-ND; Manufacturer Part Number 1: CYBLE-416045-02; Stock 1: 3441; Pricing 1: 1=16.24000, 10=14.69300, 25=13.53280, 100=12.37280, 250=11.59952 (USD); RoHS Compliant: Yes
footprint IC-CYBLE-416045-02
pins: 1 GND (power), 2 P0 5 (io), 3 VBACKUP (power), 4 VDD (power), 5 P0 0 (io), 6 P0 1 (io), 7 P10 3 (io), 8 P10 4 (io), 9 P9 3 (io), 10 P10 6 (io), 11 P10 5 (io), 12 P10 1 (io), 13 P10 0 (io), 14 P9 4 (io), 15 GND (power), 16 VREF (power), 17 P9 0 (io), 18 P9 1 (io), 19 P9 5 (io), 20 P9 6 (io), 21 P9 2 (io), 22 P7 2 (io), 23 P7 1 (io), 24 P6 4 (io), 25 P5 4 (io), 26 P6 7 (io), 27 P6 6 (io), 28 P6 2 (io), 29 P6 5 (io), 30 P6 3 (io), 31 P7 7 (io), 32 P5 6 (io), 33 P10 2 (io), 34 P12 6 (io), 35 P12 7 (io), 36 P5 5 (io), 37 P5 3 (io), 38 P5 2 (io), 39 P5 0 (io), 40 P5 1 (io), 41 P0 4 (io), 42 ~{XRES} (in), 43 GND (power)

## IC_DRV8251DDAR
designator U?
48-V, 3.5-A H bridge motor driver with current regulation and latched OCP 8-SO PowerPAD -40 to 150; Manufacturer 1: Texas Instruments; Manufacturer Part Number 1: DRV8251DDAR; Supplier 1: Digi-Key; Supplier Part Number 1: 296-DRV8251DDARCT-ND; RoHS: No; Category: Integrated Circuits (ICs); Stock: 4730; Pricing: 1=1.66, 10=1.495, 25=1.4108, 100=1.202, 250=1.12868, 500=0.9876, 1000=0.81829 (USD)
footprint SOIC_8_PP (SOIC, 8-Leads, Body 4.90x3.90mm, Pitch 1.27mm, Thermal Pad 2.29x2.29mm, IPC Medium Density)
pins: 1 GND (power), 2 IN2 (in), 3 IN1 (in), 4 VREF (in), 5 VM (power), 6 OUT1 (out), 7 ISENS (out), 8 OUT2 (out), 9 GND (power)

## M95512-DWDW4TP/K
designator U?
EEPROM Serial-SPI 512K-bit 64K x 8 3.3V/5V Automotive 8-Pin TSSOP T/R; Mfr_Name: STMicroelectronics; Interface: SPI,Serial; Access Time: 25ns; Density: 512Kb; Frequency: 10MHz; Min Supply Voltage: 2.5V; Max Supply Voltage: 5.5V; Max Frequency: 16MHz; Nominal Supply Current: 4mA; Copyright: Copyright (C) 2022 Ultra Librarian. All rights reserved.; Manufacturer_Part_Number: M95512-DWDW4TP/K; RefDes: RefDes; Type: DEV; Supplier 1: Digi-Key; Supplier Part Number 1: 497-14459-1-ND; Manufacturer 1: STMicroelectronics; Manufacturer Part Number 1: M95512-DWDW4TP/K; RoHS: Yes; Category: EEPROM; Stock 1: 11469; Pricing 1: 1=2.30000, 10=2.07100, 25=2.03920, 50=2.03400, 100=1.81740, 250=1.76084 (USD); Mount: Surface Mount; Case/Package: TSSOP; Number of Pins: 8; Min Operating Temperature: -40°C; Max Operating Temperature: 145°C; Packaging: Tape and Reel; Memory Type: EEPROM; Radiation Hardening: No; RoHS Compliant: Yes; ComponentLink1URL: https://datasheet.ciiva.com/29614/dm00046608-29614432.pdf?src-supplier=Digi-Key; ComponentLink1Description: https://datasheet.ciiva.com/29614/dm00046608-29614432.pdf?src-supplier=Digi-Key; ComponentLink2URL: https://datasheet.ciiva.com/48501/dm00046608-48501612.pdf?src-supplier=Avnet; ComponentLink2Description: https://datasheet.ciiva.com/48501/dm00046608-48501612.pdf?src-supplier=Avnet
footprint TSSOP8_169MILS_DW_STM-M
pins: 1 *S (in), 2 Q (out), 3 *W (in), 4 VSS, 5 D (in), 6 C (in), 7 *HOLD (in), 8 VCC (power)

## Mech_Module
designator MECH?  (no BOM)
footprint MECH-Module
text: Mechanicals Module Site

## Mech_Touchpad
designator U?, comment 12-Pin Touch Pad  (no BOM)
Mechanical 12-Pin Touchpad for CapTouch
footprint TOUCHPAD-12PIN (4X3 numeric touch pad)
pins: 0, 1, 2, 3, 4, 5, 6, 7, 8, 9, 10 A, 11 B

## MHOLE_2_95_MM
designator MH?  (no BOM)
Mounting Hole - 2.95mm
footprint MHOLE_2_95MM
pins: 1

## MHOLE_M2
designator MH?  (no BOM)
Mounting Hole - M2 Metric 2.4mm Hole
footprint MHOLE_M2
pins: 1

## MHOLE_M3
designator MH?  (no BOM)
Mounting Hole - M3 Metric
footprint MHOLE_M3
pins: 1

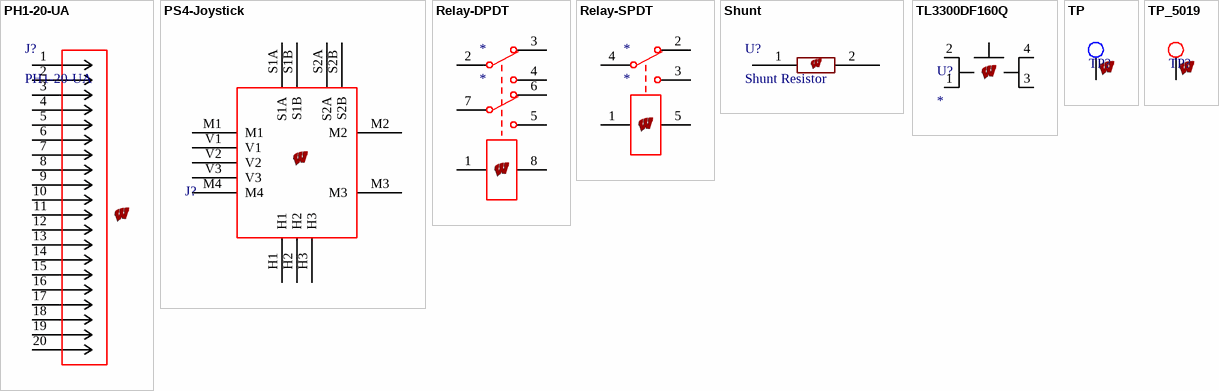
[diagram p1: symbols PH1-20-UA to TP_5019]

## PH1-20-UA
designator J?
CONN 20 Pin 0.100" spaced Header; Manufacturer_Name: ADAM TECHNOLOGIES INC; Type: Headers, Male Pins; Copyright: Copyright (C) 2025 Ultra Librarian. All rights reserved.; Manufacturer_Part_Number: PH1-20-UA; RefDes: RefDes
footprint CONN_PH1-20-UA_ADM
pins: 1, 2, 3, 4, 5, 6, 7, 8, 9, 10, 11, 12, 13, 14, 15, 16, 17, 18, 19, 20

## PS4-Joystick
designator J?  (no BOM)
PS4 Joystick
footprint PS4-Joystick
pins: H1, H2, H3, M1, M2, M3, M4, S1A, S1B, S2A, S2B, V1, V2, V3

## Relay-DPDT
designator *
Relay Ul Approved Gen Purpose Dp; Manufacturer: CIT Relay & Switch; Manufacturer Part Number: J104B2C3VDC.20S; Supplier: Digikey; Supplier Part Number 1: 2449-J104B2C3VDC.20S-ND; RoHS: No; Category: Power Relays; Stock 1: 4151; Pricing 1: 1=1.6, 10=1.5, 25=1.3332, 50=1.2666, 100=1.1999, 250=1.06656, 500=0.9999, 1000=0.93324, 5000=0.89991 (USD)
footprint CIT-J104
pins: 1, 2, 3, 4, 5, 6, 7, 8

## Relay-SPDT
designator *
Relay Ul Approved Gen Purpose Sp; Manufacturer: CIT Relay & Switch; Manufacturer Part Number: J105D1CS3VDC.45; Supplier: Digikey; Supplier Part Number 1: 2449-J105D1CS3VDC.45-ND; RoHS: No; Category: Power Relays; Stock 1: 3026; Pricing 1: 1=1.48, 10=1.386, 25=1.232, 40=1.1705, 100=1.109, 300=0.98577, 500=0.92416, 1000=0.86254, 4900=0.83173 (USD)
footprint CIT-J105D (Footprint not found)
pins: 1, 2, 3, 4, 5

## Shunt
designator U?, comment Shunt Resistor
Fixed Resistor, Metal Glaze/thick Film, 0.125W, 0ohm, Surface Mount, 0805; Manufacturer 1: Stackpole Electronics; Manufacturer Part Number 1: RMCF0805ZT0R00; Power: 125mW; Rated Temperature: 70°C; Value: 0R; Working Voltage: 150V; Package Height: 0.5mm; Package Length: 2mm; Package Width: 1.25mm; Reference Standard: AEC-Q200; Supplier 1: Digikey; Supplier Part Number 1: RMCF0805ZT0R00CT-ND; RoHS: Yes; Category: Chip SMD Resistors; Stock: 1812828; Pricing: 1=0.1, 10=0.01, 25=0.0088, 50=0.0076, 100=0.0066, 250=0.00548, 500=0.00482, 1000=0.00426, 5000=0.00324, 10000=0.00291, 15000=0.00274, 25000=0.00255, 35000=0.00243, 50000=0.00232, 125000=0.00207, 250000=0.00191, 500000=0.00178 (USD); Mounting Technology: Surface Mount; Pins: 2; Package Shape: Rectangular; Case/Package: 0805; Terminal Finish: Nickel; Min Operating Temperature: -55°C; Max Operating Temperature: 155°C; JESD-609 Code: e3; Resistor Type: FIXED RESISTOR; Construction: Rectangular; Packaging: Tape and Reel; Technology: METAL GLAZE/THICK FILM; Termination: Wraparound; Reach SVHC Compliant: Yes; RoHS Compliant: Yes; ComponentLink1URL: https://datasheet.ciiva.com:443/pdfs/VipMasterIC/IC/SEIE/SEIE-S-A0007077258/SEIE-S-A0007077258-1.pdf?src-supplier=IHS+Markit; ComponentLink1Description: https://datasheet.ciiva.com:443/pdfs/VipMasterIC/IC/SEIE/SEIE-S-A0007077258/SEIE-S-A0007077258-1.pdf?src-supplier=IHS+Markit; ComponentLink2URL: https://datasheet.ciiva.com/15193/getdatasheetpartid-360417-15193658.pdf?src-supplier=Verical; ComponentLink2Description: https://datasheet.ciiva.com/15193/getdatasheetpartid-360417-15193658.pdf?src-supplier=Verical; ComponentLink3URL: https://datasheet.ciiva.com:443/pdfs/VipMasterIC/IC/YAGO/YAGOS02743/YAGOS02743-1.pdf?src-supplier=IHS+Markit; ComponentLink3Description: https://datasheet.ciiva.com:443/pdfs/VipMasterIC/IC/YAGO/YAGOS02743/YAGOS02743-1.pdf?src-supplier=IHS+Markit; ComponentLink4URL: https://datasheet.ciiva.com/17042/rc0805-17042698.pdf?src-supplier=Future+Electronics; ComponentLink4Description: https://datasheet.ciiva.com/17042/rc0805-17042698.pdf?src-supplier=Future+Electronics; ComponentLink5URL: https://datasheet.ciiva.com/15189/getdatasheetpartid-348154-15189885.pdf?src-supplier=Verical; ComponentLink5Description: https://datasheet.ciiva.com/15189/getdatasheetpartid-348154-15189885.pdf?src-supplier=Verical
footprint SHUNT (Shut)
pins: 1, 2

## TL3300DF160Q
designator U?
Keypad Switch, 1 Switches, SPST, Momentary-tactile, 0.05A, 12VDC, 1.57N, Solder Terminal, Surface Mount-straight; Manufacturer Part Number: TL3300DF160Q; Manufacturer: E-Switch; Contact Rating @ Voltage: 0.05A @ 12VDC; Outline: 12.00mm x 12.00mm; Circuit: SPST-NO; Switch Travel: 0.35mm; Actuator Type: Standard; Mechanical Life: 200,000 Cycles; Switch Function: Off-Mom; Actuator Height off PCB, from Pins: 4.30mm; Illumination: Non-Illuminated; Operating Force: 160gf; Actuator Orientation: Top Actuated; Illumination Voltage (Nominal): -; Mounting Type: Surface Mount; Illumination Type, Color: -; Packaging: Cut Tape (CT); Ingress Protection: -; RoHS: RoHS Compliant; Actuator Material: -; Category: Switches; Operating Temperature: -25°C ~ 70°C; Features: -; Termination Style: Gull Wing; Supplier: Digi-Key; Supplier Part Number: EG4906CT-ND; Stock: 10594; Pricing: 1=0.62, 10=0.531, 25=0.4948, 100=0.4419, 250=0.40936 (USD); Switch Type: Keypad; Reach SVHC Compliant: Yes; RoHS Compliant: Yes; ComponentLink1URL: https://datasheet.ciiva.com:443/pdfs/VipMasterIC/IC/ESCH/ESCH-S-A0000510707/ESCH-S-A0000510707-1.pdf?src-supplier=IHS+Markit; ComponentLink1Description: https://datasheet.ciiva.com:443/pdfs/VipMasterIC/IC/ESCH/ESCH-S-A0000510707/ESCH-S-A0000510707-1.pdf?src-supplier=IHS+Markit; ComponentLink2URL: https://datasheet.ciiva.com/2900/n301101-2900856.pdf?src-supplier=Digikey; ComponentLink2Description: https://datasheet.ciiva.com/2900/n301101-2900856.pdf?src-supplier=Digikey; ComponentLink3URL: https://datasheet.ciiva.com/2900/n301101-2900858.pdf?src-supplier=Digikey; ComponentLink3Description: https://datasheet.ciiva.com/2900/n301101-2900858.pdf?src-supplier=Digikey
footprint TL3300DF160Q (SWITCH TACTILE SPST-NO 0.05A 12V)
pins: 1, 2, 3, 4 VCCIO

## TP
designator TP?  (value not drawn)  (no BOM)
Debugging Test Point 0.3/0.6mm
footprint TP_UW (Surface Mount Test point 0.3mm hole, 1mm diameter)
pins: 1

## TP_5019
designator TP?  (value not drawn)
Test Point, Mini, SMT, Phos Bronze/Silver, 1000pc Tape & Reel | Keystone Electronics 5019; Manufacturer Part Number: 5019; Plating: Silver; Body Material: Bronze; Number of Contacts: 1NUMBER; Supplier 1: Digikey; Supplier Part Number 1: 36-5019CT-ND; Manufacturer: Keystone Electronics; RoHS: Yes; Category: Terminals; Stock: 282853; Pricing: 1=0.37, 25=0.2496, 100=0.2117, 250=0.1902, 500=0.1756, 1000=0.16229, 2000=0.15019, 3000=0.14362, 5000=0.13585, 7000=0.13102, 10000=0.12613, 25000=0.1211 (USD); Mounting Technology: Surface Mount,PCB; Pins: 1; Contact Plating: Silver; Contact Material: Bronze; Material: Bronze; Packaging: Tape and Reel; Package Quantity: 1; Termination: SMD/SMT; Series: 5019; Height: 0.09inch; Reach SVHC Compliant: No; RoHS Compliant: Yes; Lead Free: Lead Free; ComponentLink1URL: https://datasheet.ciiva.com/14848/m60-2p61-14848437.pdf?src-supplier=Digikey; ComponentLink1Description: https://datasheet.ciiva.com/14848/m60-2p61-14848437.pdf?src-supplier=Digikey; ComponentLink2URL: https://datasheet.ciiva.com/14848/m60-2p61-14848438.pdf?src-supplier=Digikey; ComponentLink2Description: https://datasheet.ciiva.com/14848/m60-2p61-14848438.pdf?src-supplier=Digikey; ComponentLink3URL: https://datasheet.ciiva.com/14848/m60-2p61-14848439.pdf?src-supplier=Digikey; ComponentLink3Description: https://datasheet.ciiva.com/14848/m60-2p61-14848439.pdf?src-supplier=Digikey; ComponentLink4URL: https://datasheet.ciiva.com/16885/70182998-16885945.pdf?src-supplier=Allied+Electronics; ComponentLink4Description: https://datasheet.ciiva.com/16885/70182998-16885945.pdf?src-supplier=Allied+Electronics; ComponentLink5URL: https://datasheet.ciiva.com/16318/m60-2p61-16318395.pdf?src-supplier=Future+Electronics; ComponentLink5Description: https://datasheet.ciiva.com/16318/m60-2p61-16318395.pdf?src-supplier=Future+Electronics
footprint FP-5019-MFG
pins: 1